# EAGLE library part IS31AP4991-* (library ic-ISSI)
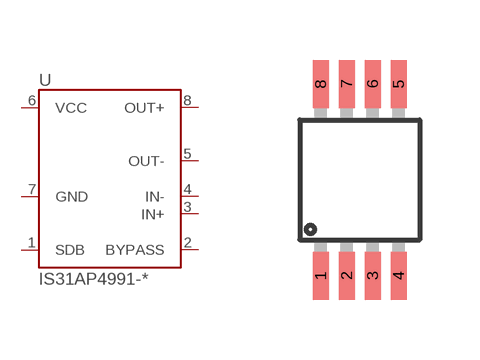
[diagram p1: symbol with the pads of MSOP8; footprint MSOP8]

Designator prefix U

## IS31AP4991-SLS  [MSOP8]
1  SDB
2  BYPASS
3  IN+
4  IN-
5  OUT-
6  VCC
7  GND
8  OUT+

## Footprint MSOP8 (pad centres in mm)
smd 0.4 x 1.2: 1 -0.975,-2.4; 2 -0.325,-2.4; 3 0.325,-2.4; 4 0.975,-2.4; 5 0.975,2.4; 6 0.325,2.4; 7 -0.325,2.4; 8 -0.975,2.4